# Altium integrated library PTN78020WAD.IntLib: 1 symbol
Pins are listed as number, name and electrical type; pins without a type are passive.

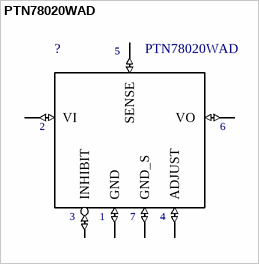
[diagram p0: symbol PTN78020WAD]

## PTN78020WAD
designator ?
6-A Wide-Input Voltage Adjustable Switching egulator 7-Through-Hole Module -40 to 85; MF: Texas Instruments; Price: None; MP: PTN78020WAD; SnapEDA_Link: https://www.snapeda.com/parts/PTN78020WAD/Texas%20Instruments/view-part/?ref=snap; Availability: Unavailable; Package: DIP-7 Texas Instruments; Value: *
footprint PTN78020WAD
pins: 1 GND (io), 2 VI (io), 3 INHIBIT (io), 4 ADJUST (io), 5 SENSE (io), 6 VO (io), 7 GND_S (io)